# Altium integrated library 691236510003(3-pin terminal).IntLib: 1 symbol
Pins are listed as number, name and electrical type; pins without a type are passive.

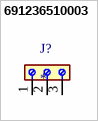
[diagram p0: symbol 691236510003]

## 691236510003
designator J?
3 Position Wire to Board Terminal Block Horizontal with Board 0.200 (5.08mm) Through Hole; MF: WÃ¼rth Elektronik; MP: 691236510003; SnapEDA_Link: https://www.snapeda.com/parts/691236510003/W%25C3%25BCrth+Elektronik+Midcom/view-part/?ref=snap; Package: None; Value: *; Check_prices: https://www.snapeda.com/parts/691236510003/W%25C3%25BCrth+Elektronik+Midcom/view-part/?ref=eda
footprint 691236510003
pins: 1, 2, 3